# Altium integrated library LPEDT_project_library.IntLib: 34 symbols (part 1 of 2)
Pins are listed as number, name and electrical type; pins without a type are passive.

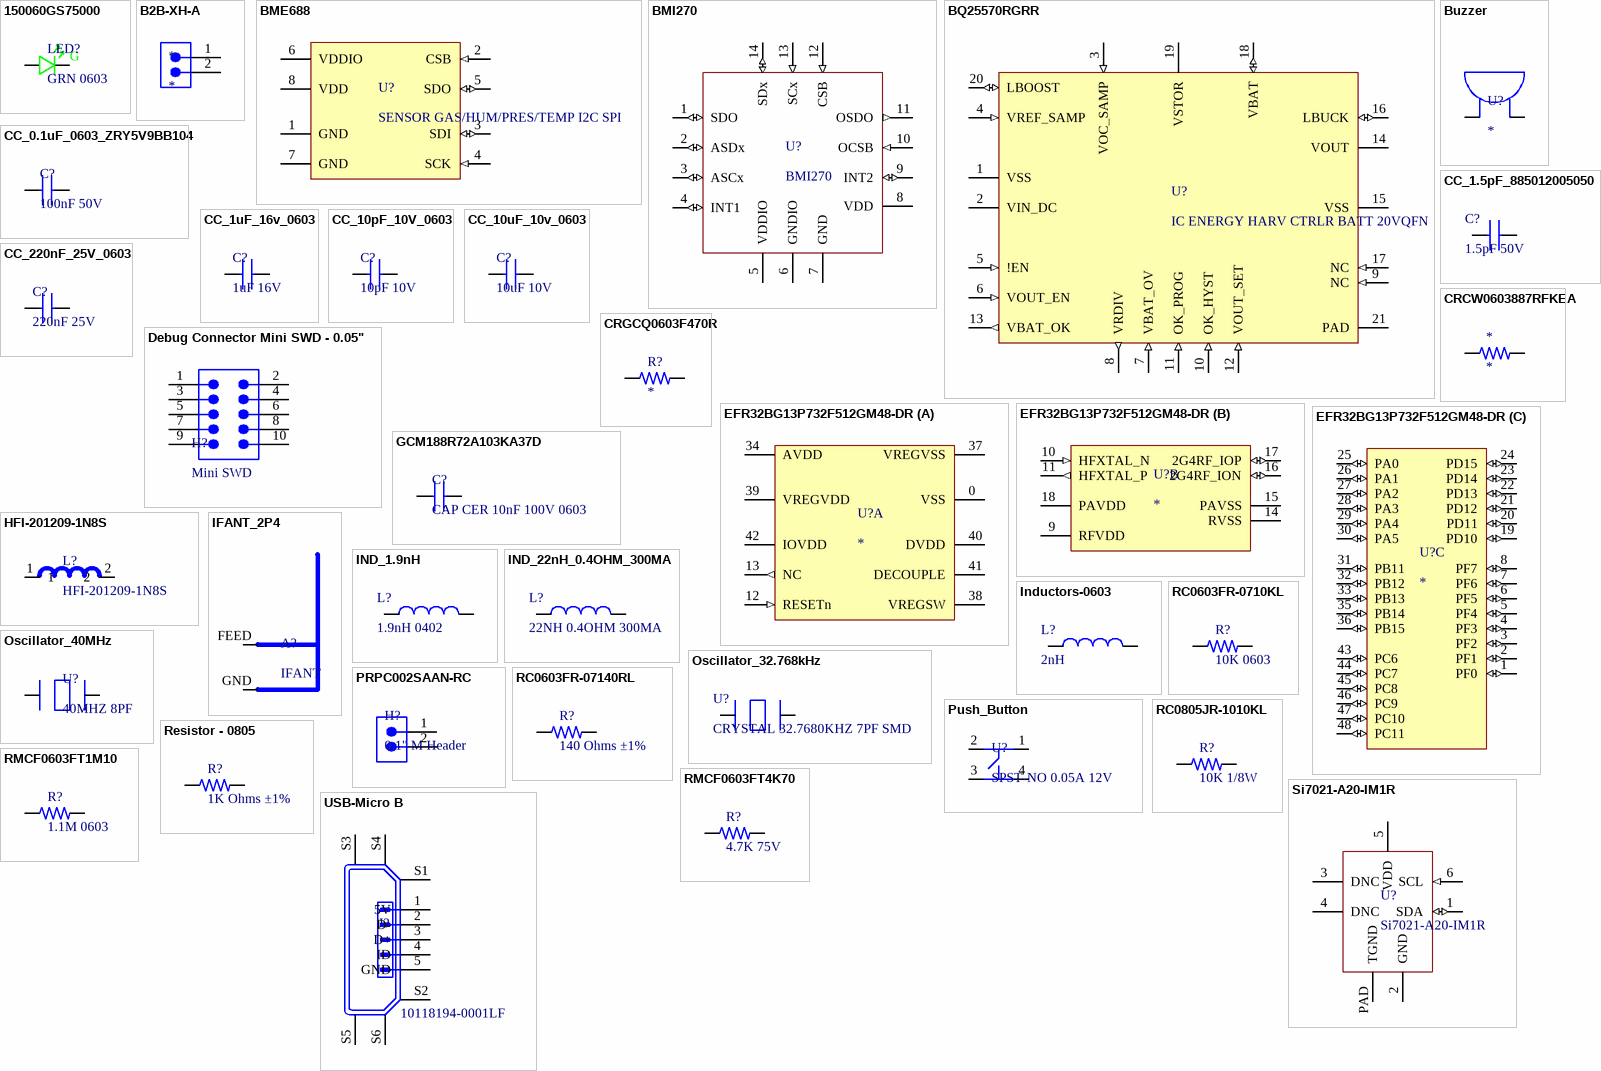
[diagram p0: symbols 150060GS75000 to USB-Micro B]

## 150060GS75000
designator LED?, comment GRN 0603
LED, 0603, GREEN, 430MCD, 520NM; Manufacturer: Wurth Electronics; Manufacturer Part Number: 150060GS75000; Dynamic Catalog: 0603 Rectangle with Flat Top Chip LEDs; 3D Model: SMCW_0603.igs / SMCW_0603.stp / SMCW_0603.wrl; Wavelength - Peak: 515nm; Voltage - Forward (Vf) (Typ): 3.2V; Current - Test: 20mA; Viewing Angle: 140°; Lens Type: Clear; Lens Style/Size: Rectangle with Flat Top, 1.1mm x 0.7mm; Other Names: 732-4971-2; Supplier 1: Digi-Key; Stock 1: 34964; Pricing 1: 1=0.14, 50=0.129, 100=0.11, 500=0.095 (USD); Standard Package: 4,000; Category: Optoelectronics; Family: LED Indication - Discrete; Series: WL-SMCW; Packaging: Tape & Reel (TR); Color: Green; Wavelength - Dominant: 520nm; Millicandela Rating: 430mcd; Package / Case: 0603 (1608 Metric); Size / Dimension: 1.60mm L x 0.80mm W; Height: 0.70mm; Mounting Type: Surface Mount; Online Catalog: 0603 Rectangle with Flat Top Chip LEDs; ComponentLink1URL: https://katalog.we-online.de/led/datasheet/150060GS75000.pdf?src-supplier=Digi-Key; ComponentLink1Description: https://katalog.we-online.de/led/datasheet/150060GS75000.pdf?src-supplier=Digi-Key; ComponentLink2URL: http://www.produktinfo.conrad.com/datenblaetter/750000-774999/759427-da-01-en-CHIPLED_0603_W_KL_GRUEN_150060GS75000.pdf?src-supplier=Conrad; ComponentLink2Description: http://www.produktinfo.conrad.com/datenblaetter/750000-774999/759427-da-01-en-CHIPLED_0603_W_KL_GRUEN_150060GS75000.pdf?src-supplier=Conrad; Supplier Part Number 1: 732-4971-1-ND
footprint LED_0603_GRN_WL-SMCW (SODFL, 2-Leads, Body 0.80x1.80mm, IPC Medium Density)
pins: A, C
text: G

## B2B-XH-A
designator *
Board Connector, 2 Contact(s), 1 Row(s), Male, Straight, Solder Terminal,; Manufacturer: JST; Manufacturer Part Number: B2B-XH-A; Supplier: Digikey; Supplier Part Number: 455-B2B-XH-A-ND; RoHS: Yes; Category: FFC / FPC; Stock: 691752; Pricing: 1=0.15, 10=0.122, 100=0.0898, 500=0.07432, 1000=0.06502, 5000=0.05573, 10000=0.05419 (USD); ComponentLink1URL: https://www.distrelec.biz/Web/Downloads/_t/ds/xh-series_eng_tds.pdf?mime=application%2Fpdf&src-supplier=Distrelec; ComponentLink1Description: https://www.distrelec.biz/Web/Downloads/_t/ds/xh-series_eng_tds.pdf?mime=application%2Fpdf&src-supplier=Distrelec
footprint JST_B2B-XH-A(LF)(SN)
pins: 1, 2

## BME688
designator U?, comment SENSOR GAS/HUM/PRES/TEMP I2C SPI
Gas, Pressure, Temperature and Humidity Sensor Digital Output 1.8V 8-Pin LGA Reel; Manufacturer: Bosch Tools; Manufacturer Part Number: BME688; Supplier: Digikey; Supplier Part Number: 828-BME688CT-ND; RoHS: No; Category: Temperature and Humidity Sensors; Stock: 11321; Pricing: 1=11.83, 10=9.466, 25=8.756, 100=7.5729, 500=7.0996, 1000=6.6263, 6000=6.29499 (USD)
footprint LGA_8_300X300X100 (LGA, 8-Leads, Body 3.00x3.00mmx1.00mm, Pitch 0.80mm)
pins: 1 GND (power) "Ground", 2 CSB (in) "Chip select", 3 SDI (io) "Serial data input", 4 SCK (in) "Serial clock input", 5 SDO (io) "Serial data output", 6 VDDIO (power) "Digital / Interface supply", 7 GND (power) "Ground", 8 VDD (power) "Analog supply"

## BMI270
designator U?
BMI270 Series 3.6 V 685 µA Smart Ultra-low Power Inertial Measurement Unit; Manufacturer: Bosch Tools; Supplier: Digikey; Supplier Part Number: 828-1091-1-ND; Manufacturer Part Number: BMI270; RoHS: No; Category: Linear ICs; Stock: 6145; Pricing: 1=5.88, 10=4.409, 25=3.9188, 50=3.7228, 100=3.6249, 500=3.03708, 1000=2.84113, 5000=2.64519 (USD)
footprint 14-QFN_3x2.5_BMI270 (QFN, 14-Leads, Body 3.00mmx2.50mm, Pitch 0.13, IPC Medium Density)
pins: 1 SDO (io) "SDO Serial data output in SPI 4W I2C Address bit-0 select in I2C mode", 2 ASDx (io) "Aux interface / OIS interface**", 3 ASCx (io) "Aux interface / OIS interface**", 4 INT1 (io) "Interrupt pin 1*", 5 VDDIO (power) "Digital I/O supply voltage (1.2 … 3.6V)", 6 GNDIO (power) "Ground for I/O", 7 GND (power) "Ground for digital & analog", 8 VDD (power) "Power supply analog & digital domain (1.71V – 3.6V)", 9 INT2 (io) "Interrupt pin 2 *", 10 OCSB (in) "OIS interface", 11 OSDO (out) "OIS interface", 12 CSB (in) "Chip select for SPI mode", 13 SCx (in) "SCK for SPI serial clock SCL for I²C serial clock", 14 SDx (io) "SDA serial data I/O in I2C SDI serial data input in SPI 4W SDA serial data I/O in SPI 3W"

## BQ25570RGRR
designator U?, comment IC ENERGY HARV CTRLR BATT 20VQFN
Power Supply Support Circuit, Adjustable, 1 Channel, PQCC20; Manufacturer: Texas Instruments; Manufacturer Part Number: BQ25570RGRR; Package Body Material: Plastic; Adjustable Threshold: Yes; Number of Channels: 1; Max Supply Voltage: 5.1V; Min Supply Voltage: 100mV; Supplier: Digikey; Supplier Part Number: 296-39934-1-ND; RoHS: Yes; Category: Battery Management; Stock: 9539; Pricing: 1=7.74, 10=5.775, 25=5.284, 100=4.7438, 250=4.48608, 500=4.3307, 1000=4.20281, 3000=4.04479 (USD); Case/Package: HVQCCN; Pins: 20; Package Shape: Square; Terminal Finish: Nickel; Min Operating Temperature: -40°C; Max Operating Temperature: 85°C; JESD-609 Code: e4; Throw Configuration: POWER SUPPLY SUPPORT CIRCUIT; Moisture Sensitivity Level: 2; Channels: 1; Package Style: CHIP CARRIER, HEAT SINK/SLUG, VERY THIN PROFILEMeter; Peak Reflow Temperature (Cel): 260°C; Surface Mount: Yes; Terminal Form: No Lead; Terminal Position: QUAD; Length: 3.5mm; Width: 3.5mm; Height - Seated (Max): 1mm; Terminal Pitch: 0.5mm; Temperature Grade: INDUSTRIAL; Reach SVHC Compliant: Yes; RoHS Compliant: Yes; ComponentLink1URL: https://www.ti.com:443/lit/ds/symlink/bq25570.pdf?src-supplier=IHS+Markit; ComponentLink1Description: https://www.ti.com:443/lit/ds/symlink/bq25570.pdf?src-supplier=IHS+Markit; ComponentLink2URL: https://datasheet.ciiva.com/29590/bq25570-29590060.pdf?src-supplier=Digikey; ComponentLink2Description: https://datasheet.ciiva.com/29590/bq25570-29590060.pdf?src-supplier=Digikey
footprint 20-VQFN_3.3x3.3_BQ25570RGRR (VQFN, 20-Leads, Body 3.30mmx3.30mm, IPC Medium Density)
pins: 1 VSS (power) "Power ground for the boost charger.", 2 VIN_DC (power) "DC voltage input from energy harvesting source. Connect at least a 4.7 μF capacitor as close as possible between this pin and pin 1.", 3 VOC_SAMP (in) "Sampling pin for MPPT network. Connect to VSTOR to sample at 80% of input source open circuit voltage. Connect to GND for 50% or connect to the mid-point of external resistor divider between VIN_DC and GND.", 4 VREF_SAMP (in) "Connect a 0.01-μF low-leakage capacitor from this pin to GND to store the voltage to which VIN_DC will be regulated. This voltage is provided by the MPPT sample circuit.", 5 !EN (in) "Active low digital programming input for enabling/disabling the IC. Connect to GND to enable the IC.", 6 VOUT_EN (in) "Active high digital programming input for enabling/disabling the buck converter. Connect to VSTOR to enable the buck converter.", 7 VBAT_OV (in) "Connect to the mid-point of external resistor divider between VRDIV and GND for setting the VBAT overvoltage threshold.", 8 VRDIV (out) "Connect high side of resistor divider networks to this biasing voltage.", 9 NC (in) "Connect to ground using the IC's PowerPAD™.", 10 OK_HYST (in) "Connect to the mid-point of external resistor divider between VRDIV and GND for setting the VBAT_OK hystersis threshold. If not used, connect this pin to GND.", 11 OK_PROG (in) "Connect to the mid-point of external resistor divider between VRDIV and GND for setting the VBAT_OK threshold. If not used, connect this pin to GND.", 12 VOUT_SET (in) "Connect to the mid-point of external resistor divider between VRDIV and GND for setting the VOUT regulation set point.", 13 VBAT_OK (out) "Digital output for battery good indicator. Internally referenced to the VSTOR voltage. Leave floating if not used.", 14 VOUT (power) "Buck converter output. Connect at least 22 μF output capacitor between this pin and pin 15 (VSS).", 15 VSS (power) "Power ground for the buck converter and analog/signal ground for the resistor dividers and VREF_SAMP capacitor.", 16 LBUCK (io) "Inductor connection for the buck converter switching node. Connect at least a 4.7 μH inductor between this pin and pin 14 (VOUT).", 17 NC (in) "Connect to ground using the IC's PowerPAD.", 18 VBAT (io) "Connect a rechargeable storage element with at least 100uF of equivalent capacitance between this pin and either VSS pin.", 19 VSTOR (power) "Connection for the output of the boost charger. Connect at least a 4.7 μF capacitor in parallel with a 0.1 μF capacitor as close as possible to between this pin and pin 1 (VSS).", 20 LBOOST (io) "Inductor connection for the boost charger switching node. Connect a 22 μH inductor between this pin and pin 2 (VIN_DC).", 21 PAD "Pad"

## Buzzer
designator U?
BUZZER PIEZO 3V 12.2MM TH; Supplier: Digikey; Supplier Part Number: 445-2525-1-ND
footprint Buzzer
pins: 1 Pin 1, 2 Pin 2

## CC_0.1uF_0603_ZRY5V9BB104
designator C?, comment 100nF 50V
Ceramic Capacitor, Multilayer, Ceramic, 50V, 80% +Tol, 20% -Tol, Y5V, -82/+22% TC, 0.1uF, Surface Mount, 0603; Manufacturer: Yageo; Manufacturer Part Number: CC0603ZRY5V9BB104; Multilayer: Yes; Supplier: Digikey; Supplier Part Number: 311-1343-1-ND; RoHS: Yes; Category: Ceramic Capacitors; Stock: 7870307; Pricing: 1=0.1, 10=0.028, 50=0.0162, 100=0.0125, 500=0.00944, 1000=0.00742 (USD); Mounting Technology: Surface Mount; Pins: 2; Dielectric Material: Ceramic; Package Shape: Rectangular; Case/Package: 0603; Terminal Finish: Nickel; Min Operating Temperature: -30°C; Max Operating Temperature: 85°C; JESD-609 Code: e3; Value: 100nF; Capacitor Type: Ceramic; Tolerance  (fill in as +-): 20%; Package Style: SMTMeter; Packaging: Tape and Reel; Tolerance (fill in as +-): 80%; Rated DC Voltage (URdc): 50V; Temperature Characteristics Code: Y5V; Termination: Wraparound; Length: 1.6mm; Width: 0.8mm; Height: 0.8mm; Reach SVHC Compliant: Yes; RoHS Compliant: Yes; ComponentLink1URL: https://datasheet.ciiva.com:443/pdfs/VipMasterIC/IC/YAGO/YAGO-S-A0004841839/YAGO-S-A0004841839-1.pdf?src-supplier=IHS+Markit; ComponentLink1Description: https://datasheet.ciiva.com:443/pdfs/VipMasterIC/IC/YAGO/YAGO-S-A0004841839/YAGO-S-A0004841839-1.pdf?src-supplier=IHS+Markit; ComponentLink2URL: https://datasheet.ciiva.com/144/mlccorderingcode-144027.pdf?src-supplier=Digikey; ComponentLink2Description: https://datasheet.ciiva.com/144/mlccorderingcode-144027.pdf?src-supplier=Digikey; ComponentLink3URL: https://datasheet.ciiva.com/11786/0900766b8079c870-11786029.pdf?src-supplier=Rs; ComponentLink3Description: https://datasheet.ciiva.com/11786/0900766b8079c870-11786029.pdf?src-supplier=Rs; ComponentLink4URL: https://datasheet.ciiva.com/144/mlccorderingcode-144025.pdf?src-supplier=Digikey; ComponentLink4Description: https://datasheet.ciiva.com/144/mlccorderingcode-144025.pdf?src-supplier=Digikey; ComponentLink5URL: https://datasheet.ciiva.com/144/mlccorderingcode-144026.pdf?src-supplier=Digikey; ComponentLink5Description: https://datasheet.ciiva.com/144/mlccorderingcode-144026.pdf?src-supplier=Digikey; ComponentLink6URL: https://datasheet.ciiva.com/5427/upy-gphc-y5v-6-3v-to-50v-5-5427420.pdf?src-supplier=Mouser; ComponentLink6Description: https://datasheet.ciiva.com/5427/upy-gphc-y5v-6-3v-to-50v-5-5427420.pdf?src-supplier=Mouser; ComponentLink7URL: https://datasheet.ciiva.com/28450/1132289-28450702.pdf?src-supplier=Element14; ComponentLink7Description: https://datasheet.ciiva.com/28450/1132289-28450702.pdf?src-supplier=Element14; ComponentLink8URL: https://datasheet.ciiva.com/26829/getdatasheetpartid-403611-26829467.pdf?src-supplier=Verical; ComponentLink8Description: https://datasheet.ciiva.com/26829/getdatasheetpartid-403611-26829467.pdf?src-supplier=Verical
footprint CAP_0603_1MM (Chip Capacitor, 2-Leads, Body 1.60x0.80mm, IPC Medium Density)
pins: 1, 2

## CC_1.5pF_885012005050
designator C?, comment 1.5pF 50V
1.5 pF ±0.5pF 50V Ceramic Capacitor C0G, NP0 0402 (1005 Metric); Manufacturer: Wurth Electronics; Manufacturer Part Number: 885012005050; Supplier: Digikey; Supplier Part Number: 732-12249-1-ND; RoHS: Yes; Category: Ceramic Capacitors; Stock: 24790; Pricing: 1=0.1, 10=0.015, 100=0.014, 500=0.012 (USD); Pins: 2; Dielectric Material: Ceramic; Capacitor Type: Ceramic; Reach SVHC Compliant: Yes; RoHS Compliant: Yes; ComponentLink1URL: https://datasheet.ciiva.com:443/pdfs/VipMasterIC/IC/MIDC/MIDC-S-A0001525369/MIDC-S-A0001525129-1.pdf?src-supplier=IHS+Markit; ComponentLink1Description: https://datasheet.ciiva.com:443/pdfs/VipMasterIC/IC/MIDC/MIDC-S-A0001525369/MIDC-S-A0001525129-1.pdf?src-supplier=IHS+Markit; ComponentLink2URL: https://katalog.we-online.de/pbs/datasheet/885012005050.pdf?src-supplier=Digikey; ComponentLink2Description: https://katalog.we-online.de/pbs/datasheet/885012005050.pdf?src-supplier=Digikey
footprint CAPC1005X55N
pins: 1, 2

## CC_1uF_16v_0603
designator C?, comment 1uF 16V
Ceramic Capacitor, Multilayer, Ceramic, 16V, 10% +Tol, 10% -Tol, X5R, 15% TC, 1uF, Surface Mount, 0603; Manufacturer: Samsung; Manufacturer Part Number: CL10A105KO8NNND; Multilayer: Yes; Supplier: Digikey; Supplier Part Number: 1276-CL10A105KO8NNNDCT-ND; RoHS: Yes; Category: Ceramic Capacitors; Stock: 29219; Pricing: 1=0.1, 10=0.029, 50=0.0194, 100=0.0165, 500=0.01166, 1000=0.01017, 2500=0.0086, 5000=0.00764 (USD); Mounting Technology: Surface Mount; Pins: 2; Dielectric Material: Ceramic; Package Shape: Rectangular; Case/Package: 0603; Terminal Finish: Nickel; Min Operating Temperature: -55°C; Max Operating Temperature: 85°C; JESD-609 Code: e3; Value: 1uF; Capacitor Type: Ceramic; Tolerance  (fill in as +-): 10%; Package Style: SMTMeter; Packaging: Tape and Reel; Tolerance (fill in as +-): 10%; Rated DC Voltage (URdc): 16V; Temperature Characteristics Code: X5R; Termination: Wraparound; Length: 1.6mm; Width: 0.8mm; Height: 0.9mm; Reach SVHC Compliant: Yes; RoHS Compliant: Yes; ComponentLink1URL: https://datasheet.ciiva.com:443/pdfs/VipMasterIC/IC/SEMS/SEMS-S-A0008520814/SEMS-S-A0008520822-1.pdf?src-supplier=IHS+Markit; ComponentLink1Description: https://datasheet.ciiva.com:443/pdfs/VipMasterIC/IC/SEMS/SEMS-S-A0008520814/SEMS-S-A0008520822-1.pdf?src-supplier=IHS+Markit; ComponentLink2URL: https://datasheet.ciiva.com/15195/getdatasheetpartid-353183-15195707.pdf?src-supplier=Verical; ComponentLink2Description: https://datasheet.ciiva.com/15195/getdatasheetpartid-353183-15195707.pdf?src-supplier=Verical
footprint CAP_0603_1MM (Chip Capacitor, 2-Leads, Body 1.60x0.80mm, IPC Medium Density)
pins: 1, 2

## CC_10pF_10V_0603
designator C?, comment 10pF 10V
10 pF ±5% 10V Ceramic Capacitor C0G, NP0 0603 (1608 Metric); Supplier: Digikey; Supplier Part Number: 732-7746-1-ND
footprint CAP_0603_1MM (Chip Capacitor, 2-Leads, Body 1.60x0.80mm, IPC Medium Density)
pins: 1, 2

## CC_10uF_10v_0603
designator C?, comment 10uF 10V
Ceramic Capacitor, Multilayer, Ceramic, 10V, 20% +Tol, 20% -Tol, X5R, 15% TC, 10uF, Surface Mount, 0603; Manufacturer: Cal-Chip Electronics; Manufacturer Part Number: GMC10X5R106M10NT; Multilayer: Yes; Supplier: Digikey; Supplier Part Number: 4713-GMC10X5R106M10NTCT-ND; RoHS: Yes; Stock: 109451; Pricing: 1=0.1, 10=0.053, 50=0.0362, 100=0.0312, 500=0.02258, 1000=0.01991 (USD); Mounting Technology: Surface Mount; Pins: 2; Dielectric Material: Ceramic; Package Shape: Rectangular; Case/Package: 0603; Terminal Finish: Nickel; Min Operating Temperature: -55°C; Max Operating Temperature: 85°C; JESD-609 Code: e3; Value: 10uF; Capacitor Type: Ceramic; Tolerance  (fill in as +-): 20%; Package Style: SMTMeter; Packaging: Tape and Reel; Tolerance (fill in as +-): 20%; Rated DC Voltage (URdc): 10V; Temperature Characteristics Code: X5R; Termination: Wraparound; Length: 1.6mm; Width: 0.8mm; Height: 0.8mm; Reach SVHC Compliant: Yes; RoHS Compliant: Yes; ComponentLink1URL: https://datasheet.ciiva.com:443/pdfs/VipMasterIC/IC/CALC/CALC-S-A0005264378/CALC-S-A0005264378-1.pdf?src-supplier=IHS+Markit; ComponentLink1Description: https://datasheet.ciiva.com:443/pdfs/VipMasterIC/IC/CALC/CALC-S-A0005264378/CALC-S-A0005264378-1.pdf?src-supplier=IHS+Markit
footprint CAP_0603_1MM (Chip Capacitor, 2-Leads, Body 1.60x0.80mm, IPC Medium Density)
pins: 1, 2

## CC_220nF_25V_0603
designator C?, comment 220nF 25V
Ceramic Capacitor, Multilayer, Ceramic, 25V, 10% +Tol, 10% -Tol, X5R, 15% TC, 0.22uF, Surface Mount, 0603; Manufacturer: Walsin Technologies; Manufacturer Part Number: 0603X224K250CT; Multilayer: Yes; Supplier: Digikey; Supplier Part Number: 1292-1552-1-ND; RoHS: Yes; Category: Ceramic Capacitors; Stock: 22060; Pricing: 1=0.1, 10=0.037, 50=0.0212, 100=0.0164, 500=0.01234, 1000=0.00969 (USD); Mounting Technology: Surface Mount; Pins: 2; Dielectric Material: Ceramic; Package Shape: Rectangular; Case/Package: 0603; Terminal Finish: Nickel; Min Operating Temperature: -55°C; Max Operating Temperature: 85°C; JESD-609 Code: e3; Value: 220nF; Capacitor Type: Ceramic; Tolerance  (fill in as +-): 10%; Package Style: SMTMeter; Packaging: Tape and Reel; Tolerance (fill in as +-): 10%; Rated DC Voltage (URdc): 25V; Temperature Characteristics Code: X5R; Termination: Wraparound; Length: 1.6mm; Width: 0.8mm; Height: 0.8mm; Reach SVHC Compliant: Yes; RoHS Compliant: Yes; ComponentLink1URL: https://datasheet.ciiva.com:443/pdfs/VipMasterIC/IC/WATC/WATC-S-A0009550342/WATC-S-A0009550342-1.pdf?src-supplier=IHS+Markit; ComponentLink1Description: https://datasheet.ciiva.com:443/pdfs/VipMasterIC/IC/WATC/WATC-S-A0009550342/WATC-S-A0009550342-1.pdf?src-supplier=IHS+Markit; ComponentLink2URL: http://www.farnell.com/datasheets/1958513.pdf?src-supplier=Farnell; ComponentLink2Description: http://www.farnell.com/datasheets/1958513.pdf?src-supplier=Farnell; ComponentLink3URL: https://datasheet.octopart.com/0603X224K250CT-Walsin-Technologies-datasheet-85392065.pdf?src-supplier=Element14; ComponentLink3Description: https://datasheet.octopart.com/0603X224K250CT-Walsin-Technologies-datasheet-85392065.pdf?src-supplier=Element14; ComponentLink4URL: http://www.passivecomponent.com/wp-content/uploads/2018/10/MLCC.pdf?src-supplier=Digikey; ComponentLink4Description: http://www.passivecomponent.com/wp-content/uploads/2018/10/MLCC.pdf?src-supplier=Digikey; ComponentLink5URL: https://datasheet.octopart.com/0603X224K250CT-Walsin-Technologies-datasheet-157857041.pdf?src-supplier=Future+Electronics; ComponentLink5Description: https://datasheet.octopart.com/0603X224K250CT-Walsin-Technologies-datasheet-157857041.pdf?src-supplier=Future+Electronics; ComponentLink6URL: https://datasheet.octopart.com/0603X224K250CT-Walsin-Technologies-datasheet-136037192.pdf?src-supplier=TECHDesign; ComponentLink6Description: https://datasheet.octopart.com/0603X224K250CT-Walsin-Technologies-datasheet-136037192.pdf?src-supplier=TECHDesign
footprint CAP_0603_1MM (Chip Capacitor, 2-Leads, Body 1.60x0.80mm, IPC Medium Density)
pins: 1, 2

## CRCW0603887RFKEA
designator *
Fixed Resistor, Metal Glaze/thick Film, 0.1W, 887ohm, 75V, 1% +/-Tol, 100ppm/Cel, Surface Mount, 0603; Manufacturer: Vishay; Manufacturer Part Number: CRCW0603887RFKEA; Power: 100mW; Rated Temperature: 70°C; Value: 887R; Temperature Coefficient: 100ppm/°C; Package Height: 0.45mm; Package Length: 1.55mm; Package Width: 0.85mm; Reference Standard: AEC-Q200; Supplier: Digikey; Supplier Part Number: 541-887HCT-ND; RoHS: Yes; Category: Chip SMD Resistors; Stock: 35413; Pricing: 1=0.1, 10=0.026, 50=0.0166, 100=0.014, 500=0.00954, 1000=0.00824 (USD); Mounting Technology: Surface Mount; Pins: 2; Package Shape: Rectangular; Case/Package: 0603; Terminal Finish: Nickel; Min Operating Temperature: -55°C; Max Operating Temperature: 155°C; Tolerance: 1%; Resistor Type: FIXED RESISTOR; JESD-609 Code: e3; Construction: Chip; Package Style: SMTMeter; Packaging: Tape and Reel; Technology: METAL GLAZE/THICK FILM; Termination: Wraparound; Working Voltage: 75V; Reach SVHC Compliant: Yes; RoHS Compliant: Yes; ComponentLink1URL: https://datasheet.ciiva.com:443/pdfs/VipMasterIC/IC/VISH/VISH-S-A0007266705/VISH-S-A0007266705-1.pdf?src-supplier=IHS+Markit; ComponentLink1Description: https://datasheet.ciiva.com:443/pdfs/VipMasterIC/IC/VISH/VISH-S-A0007266705/VISH-S-A0007266705-1.pdf?src-supplier=IHS+Markit; ComponentLink2URL: https://datasheet.ciiva.com/7672/1697337-7672573.pdf?src-supplier=Element14; ComponentLink2Description: https://datasheet.ciiva.com/7672/1697337-7672573.pdf?src-supplier=Element14; ComponentLink3URL: https://datasheet.ciiva.com/7672/1697337-7672574.pdf?src-supplier=Element14; ComponentLink3Description: https://datasheet.ciiva.com/7672/1697337-7672574.pdf?src-supplier=Element14; ComponentLink4URL: https://datasheet.ciiva.com/7792/dcrcwe3-7792425.pdf?src-supplier=Element14; ComponentLink4Description: https://datasheet.ciiva.com/7792/dcrcwe3-7792425.pdf?src-supplier=Element14; ComponentLink5URL: https://datasheet.ciiva.com/22706/1697337-22706375.pdf?src-supplier=Element14; ComponentLink5Description: https://datasheet.ciiva.com/22706/1697337-22706375.pdf?src-supplier=Element14; ComponentLink6URL: https://datasheet.ciiva.com/22674/1847332-22674605.pdf?src-supplier=Element14; ComponentLink6Description: https://datasheet.ciiva.com/22674/1847332-22674605.pdf?src-supplier=Element14; ComponentLink7URL: https://datasheet.ciiva.com/2494/dcrcwe3-2494672.pdf?src-supplier=Digikey; ComponentLink7Description: https://datasheet.ciiva.com/2494/dcrcwe3-2494672.pdf?src-supplier=Digikey; ComponentLink8URL: https://datasheet.ciiva.com/2494/dcrcwe3-2494673.pdf?src-supplier=Digikey; ComponentLink8Description: https://datasheet.ciiva.com/2494/dcrcwe3-2494673.pdf?src-supplier=Digikey; ComponentLink9URL: https://datasheet.ciiva.com/2494/dcrcwe3-2494674.pdf?src-supplier=Digikey; ComponentLink9Description: https://datasheet.ciiva.com/2494/dcrcwe3-2494674.pdf?src-supplier=Digikey; ComponentLink10URL: https://datasheet.ciiva.com/3257/dcrcwe3-3257945.pdf?src-supplier=Avnet; ComponentLink10Description: https://datasheet.ciiva.com/3257/dcrcwe3-3257945.pdf?src-supplier=Avnet; ComponentLink11URL: https://datasheet.ciiva.com/16371/dcrcwe3-16371788.pdf?src-supplier=Future+Electronics; ComponentLink11Description: https://datasheet.ciiva.com/16371/dcrcwe3-16371788.pdf?src-supplier=Future+Electronics; ComponentLink12URL: https://datasheet.ciiva.com/16759/70201119-16759022.pdf?src-supplier=Allied+Electronics; ComponentLink12Description: https://datasheet.ciiva.com/16759/70201119-16759022.pdf?src-supplier=Allied+Electronics
footprint RES_0603_1608X06 (Chip Resistor, 2-Leads, Body 1.60x0.80mm, IPC Medium Density)
pins: 1, 2

## CRGCQ0603F470R
designator R?
Fixed Resistor, Metal Glaze/thick Film, 0.1W, 470ohm, 75V, 1% +/-Tol, 100ppm/Cel, Surface Mount, 0603; Manufacturer: TE Connectivity; Manufacturer Part Number: CRGCQ0603F470R; Supplier: Digikey; Supplier Part Number: A129684CT-ND; RoHS: Yes; Category: Chip SMD Resistors; Stock: 1175736; Pricing: 1=0.1, 10=0.023, 50=0.0144, 100=0.0121, 500=0.00822, 1000=0.00709 (USD); Pins: 2; Resistor Type: FIXED RESISTOR; Reach SVHC Compliant: Yes; RoHS Compliant: Yes; ComponentLink1URL: https://datasheet.ciiva.com:443/pdfs/VipMasterIC/IC/TYEL/TYEL-S-A0009522825/TYEL-S-A0009523907-1.pdf?src-supplier=IHS+Markit; ComponentLink1Description: https://datasheet.ciiva.com:443/pdfs/VipMasterIC/IC/TYEL/TYEL-S-A0009522825/TYEL-S-A0009523907-1.pdf?src-supplier=IHS+Markit; ComponentLink2URL: https://4donline.ihs.com/images/VipMasterIC/IC/TYEL/TYEL-S-A0004929575/TYEL-S-A0004929575-1.pdf?hkey=52A5661711E402568146F3353EA87419&src-supplier=Farnell; ComponentLink2Description: https://4donline.ihs.com/images/VipMasterIC/IC/TYEL/TYEL-S-A0004929575/TYEL-S-A0004929575-1.pdf?hkey=52A5661711E402568146F3353EA87419&src-supplier=Farnell; ComponentLink3URL: http://datasheet.octopart.com/CRGCQ0603F470R-TE-Connectivity-datasheet-114679081.pdf?src-supplier=Verical; ComponentLink3Description: http://datasheet.octopart.com/CRGCQ0603F470R-TE-Connectivity-datasheet-114679081.pdf?src-supplier=Verical; ComponentLink4URL: http://datasheet.octopart.com/CRGCQ0603F470R-TE-Connectivity-datasheet-114679081.pdf?src-supplier=Onlinecomponents.com; ComponentLink4Description: http://datasheet.octopart.com/CRGCQ0603F470R-TE-Connectivity-datasheet-114679081.pdf?src-supplier=Onlinecomponents.com; ComponentLink5URL: https://4donline.ihs.com/images/VipMasterIC/IC/TYEL/TYEL-S-A0004929575/TYEL-S-A0004929575-1.pdf?hkey=52A5661711E402568146F3353EA87419&src-supplier=Newark; ComponentLink5Description: https://4donline.ihs.com/images/VipMasterIC/IC/TYEL/TYEL-S-A0004929575/TYEL-S-A0004929575-1.pdf?hkey=52A5661711E402568146F3353EA87419&src-supplier=Newark; ComponentLink6URL: http://datasheet.octopart.com/CRGCQ0603F470R-TE-Connectivity-datasheet-114679081.pdf?src-supplier=Mouser; ComponentLink6Description: http://datasheet.octopart.com/CRGCQ0603F470R-TE-Connectivity-datasheet-114679081.pdf?src-supplier=Mouser; ComponentLink7URL: https://www.te.com/commerce/DocumentDelivery/DDEController?Action=srchrtrv&DocNm=1773204-3&DocType=DS&DocLang=English&src-supplier=Digikey; ComponentLink7Description: https://www.te.com/commerce/DocumentDelivery/DDEController?Action=srchrtrv&DocNm=1773204-3&DocType=DS&DocLang=English&src-supplier=Digikey; ComponentLink8URL: https://www.te.com/commerce/DocumentDelivery/DDEController?Action=srchrtrv&amp;DocNm=1773204-3&amp;DocType=DS&amp;DocLang=English&src-supplier=Digikey; ComponentLink8Description: https://www.te.com/commerce/DocumentDelivery/DDEController?Action=srchrtrv&amp;DocNm=1773204-3&amp;DocType=DS&amp;DocLang=English&src-supplier=Digikey; ComponentLink9URL: http://datasheet.octopart.com/CRGCQ0603F470R-TE-Connectivity-datasheet-114679081.pdf?src-supplier=Avnet; ComponentLink9Description: http://datasheet.octopart.com/CRGCQ0603F470R-TE-Connectivity-datasheet-114679081.pdf?src-supplier=Avnet; ComponentLink10URL: http://datasheet.octopart.com/CRGCQ0603F470R-TE-Connectivity-datasheet-114679081.pdf?src-supplier=Newark; ComponentLink10Description: http://datasheet.octopart.com/CRGCQ0603F470R-TE-Connectivity-datasheet-114679081.pdf?src-supplier=Newark; ComponentLink11URL: http://datasheet.octopart.com/CRGCQ0603F470R-TE-Connectivity-datasheet-114679081.pdf?src-supplier=Electro+Sonic; ComponentLink11Description: http://datasheet.octopart.com/CRGCQ0603F470R-TE-Connectivity-datasheet-114679081.pdf?src-supplier=Electro+Sonic; ComponentLink12URL: http://datasheet.octopart.com/CRGCQ0603F470R-TE-Connectivity-datasheet-114679081.pdf?src-supplier=Heilind+Electronics; ComponentLink12Description: http://datasheet.octopart.com/CRGCQ0603F470R-TE-Connectivity-datasheet-114679081.pdf?src-supplier=Heilind+Electronics; ComponentLink13URL: http://datasheet.octopart.com/CRGCQ0603F470R-TE-Connectivity-datasheet-114679081.pdf?src-supplier=TME; ComponentLink13Description: http://datasheet.octopart.com/CRGCQ0603F470R-TE-Connectivity-datasheet-114679081.pdf?src-supplier=TME; ComponentLink14URL: http://datasheet.octopart.com/CRGCQ0603F470R-TE-Connectivity-datasheet-114679081.pdf?src-supplier=Sager+Electronics; ComponentLink14Description: http://datasheet.octopart.com/CRGCQ0603F470R-TE-Connectivity-datasheet-114679081.pdf?src-supplier=Sager+Electronics; ComponentLink15URL: http://datasheet.octopart.com/CRGCQ0603F470R-TE-Connectivity-datasheet-114679081.pdf?src-supplier=Interstate+Connecting+Components; ComponentLink15Description: http://datasheet.octopart.com/CRGCQ0603F470R-TE-Connectivity-datasheet-114679081.pdf?src-supplier=Interstate+Connecting+Components; ComponentLink16URL: https://datasheet.octopart.com/CRGCQ0603F470R-TE-Connectivity-datasheet-114679081.pdf?src-supplier=Master+Electronics; ComponentLink16Description: https://datasheet.octopart.com/CRGCQ0603F470R-TE-Connectivity-datasheet-114679081.pdf?src-supplier=Master+Electronics
footprint RES_0603_1608X06 (Chip Resistor, 2-Leads, Body 1.60x0.80mm, IPC Medium Density)
pins: 1, 2

## Debug Connector Mini SWD - 0.05"
designator H?, comment Mini SWD
Mini SWD 0.05" Pitch Connector - 10 Pin SMT Box Header; Manufacturer: Adafruit Industries; Manufacturer Part Number: 4048; Supplier 1: Digi-Key; RoHS: No; Category: Connectors; Stock 1: 201; Pricing 1: 1=1.95000 (USD); ComponentLink1URL: https://media.digikey.com/pdf/Data%20Sheets/Adafruit%20PDFs/4048_Web.pdf?src-supplier=Digi-Key; ComponentLink1Description: https://media.digikey.com/pdf/Data%20Sheets/Adafruit%20PDFs/4048_Web.pdf?src-supplier=Digi-Key
footprint FTSH-105-01-XXX-DV-K
pins: 1, 2, 3, 4, 5, 6, 7, 8, 9, 10

## EFR32BG13P732F512GM48-DR
designator U?
IC RF TXRX+MCU BLE 48QFN; Manufacturer: Silicon Labs; Manufacturer Part Number: EFR32BG13P732F512GM48-DR; Supplier: Digikey; Supplier Part Number: 336-EFR32BG13P732F512GM48-DRCT-ND; RoHS: No; Category: RF Receivers, Transceivers; Stock: 8814; Pricing: 1=7.73, 10=7.088, 25=6.444, 100=5.7994, 250=5.31612, 500=4.83284, 1000=4.34956 (USD); RoHS Compliant: Yes; ComponentLink1URL: https://www.silabs.com/documents/login/data-sheets/efr32bg13-datasheet.pdf?src-supplier=Digikey; ComponentLink1Description: https://www.silabs.com/documents/login/data-sheets/efr32bg13-datasheet.pdf?src-supplier=Digikey
footprint QFN48P700X700X90_HS-49N (QFN, 48-Leads, Body 7.00x7.00mm, Pitch 0.50mm, Thermal Pad 4.70x4.70mm, IPC Medium Density)
part A pins: 0 VSS (power) "Power Ground", 12 RESETn (in) "Reset input, active low. This pin is internally pulled up to AVDD. To apply anexternal reset source to this pin, it is required to only drive this pin low during reset, and let the internal pull-up ensure that reset is released.", 13 NC (out) "No Connect.", 34 AVDD (power) "Analog power supply.", 37 VREGVSS (power) "Voltage regulator VSS", 38 VREGSW (power) "DCDC regulator switching node", 39 VREGVDD (power) "Voltage regulator VDD input", 40 DVDD (power) "Digital power supply.", 41 DECOUPLE (power) "Decouple output for on-chip voltage regulator. An external decoupling capacitor is required at this pin. This pin should not be used to power any external circuits.", 42 IOVDD (power) "Digital IO power supply."
part B pins: 9 RFVDD (power) "Radio power supply", 10 HFXTAL_N (in) "High Frequency Crystal input pin.", 11 HFXTAL_P (out) "High Frequency Crystal output pin.", 14 RVSS (power) "Radio Ground", 15 PAVSS (power) "Power Amplifier (PA) voltage regulator VSS", 16 2G4RF_ION (io) "2.4 GHz Differential RF input/output, negative path. This pin should be externally grounded.", 17 2G4RF_IOP (io) "2.4 GHz Differential RF input/output, positive path.", 18 PAVDD (power) "Power Amplifier (PA) voltage regulator VDD input"
part C pins: 1 PF0 (io) "GPIO (5V)", 2 PF1 (io) "GPIO (5V)", 3 PF2 (io) "GPIO (5V)", 4 PF3 (io) "GPIO (5V)", 5 PF4 (io) "GPIO (5V)", 6 PF5 (io) "GPIO (5V)", 7 PF6 (io) "GPIO (5V)", 8 PF7 (io) "GPIO (5V)", 19 PD10 (io) "GPIO (5V)", 20 PD11 (io) "GPIO (5V)", 21 PD12 (io) "GPIO (5V)", 22 PD13 (io) "GPIO", 23 PD14 (io) "GPIO", 24 PD15 (io) "GPIO", 25 PA0 (io) "GPIO", 26 PA1 (io) "GPIO", 27 PA2 (io) "GPIO", 28 PA3 (io) "GPIO", 29 PA4 (io) "GPIO", 30 PA5 (io) "GPIO", 31 PB11 (io) "GPIO", 32 PB12 (io) "GPIO", 33 PB13 (io) "GPIO", 35 PB14 (io) "GPIO", 36 PB15 (io) "GPIO", 43 PC6 (io) "GPIO (5V)", 44 PC7 (io) "GPIO (5V)", 45 PC8 (io) "GPIO (5V)", 46 PC9 (io) "GPIO (5V)", 47 PC10 (io) "GPIO (5V)", 48 PC11 (io) "GPIO (5V)"

## GCM188R72A103KA37D
designator C?, comment CAP CER 10nF 100V 0603
Ceramic Capacitor, Multilayer, Ceramic, 100V, 10% +Tol, 10% -Tol, X7R, 15% TC, 0.01uF, Surface Mount, 0603; Manufacturer: Murata; Manufacturer Part Number: GCM188R72A103KA37D; Multilayer: Yes; Reference Standard: AEC-Q200; Supplier: Digikey; Supplier Part Number: 490-4781-1-ND; RoHS: Yes; Category: Ceramic Capacitors; Stock: 6381052; Pricing: 1=0.1, 10=0.03, 50=0.0204, 100=0.0174, 500=0.0125, 1000=0.01097 (USD); Mounting Technology: Surface Mount; Pins: 2; Dielectric Material: Ceramic; Package Shape: Rectangular; Case/Package: 0603; Terminal Finish: Nickel; Min Operating Temperature: -55°C; Max Operating Temperature: 125°C; JESD-609 Code: e3; Value: 10nF; Capacitor Type: Ceramic; Tolerance  (fill in as +-): 10%; Package Style: SMTMeter; Packaging: Tape and Reel; Tolerance (fill in as +-): 10%; Rated DC Voltage (URdc): 100V; Temperature Characteristics Code: X7R; Termination: Wraparound; Length: 1.6mm; Width: 0.8mm; Height: 0.9mm; Reach SVHC Compliant: Yes; RoHS Compliant: Yes; ComponentLink1URL: https://psearch.en.murata.com:443/capacitor/product/GCM188R72A103KA37%23.pdf?src-supplier=IHS+Markit; ComponentLink1Description: https://psearch.en.murata.com:443/capacitor/product/GCM188R72A103KA37%23.pdf?src-supplier=IHS+Markit; ComponentLink2URL: https://datasheet.ciiva.com/132/product-132907.pdf?src-supplier=Digikey; ComponentLink2Description: https://datasheet.ciiva.com/132/product-132907.pdf?src-supplier=Digikey; ComponentLink3URL: https://datasheet.ciiva.com/132/product-132908.pdf?src-supplier=Digikey; ComponentLink3Description: https://datasheet.ciiva.com/132/product-132908.pdf?src-supplier=Digikey; ComponentLink4URL: https://datasheet.ciiva.com/132/product-132909.pdf?src-supplier=Digikey; ComponentLink4Description: https://datasheet.ciiva.com/132/product-132909.pdf?src-supplier=Digikey; ComponentLink5URL: https://datasheet.ciiva.com/11786/0900766b80ef92d0-11786108.pdf?src-supplier=Rs; ComponentLink5Description: https://datasheet.ciiva.com/11786/0900766b80ef92d0-11786108.pdf?src-supplier=Rs; ComponentLink6URL: https://datasheet.ciiva.com/16497/product-16497251.pdf?src-supplier=Future+Electronics; ComponentLink6Description: https://datasheet.ciiva.com/16497/product-16497251.pdf?src-supplier=Future+Electronics; ComponentLink7URL: https://datasheet.ciiva.com/18183/getdatasheetpartid-178890-18183651.pdf?src-supplier=Verical; ComponentLink7Description: https://datasheet.ciiva.com/18183/getdatasheetpartid-178890-18183651.pdf?src-supplier=Verical; ComponentLink8URL: https://datasheet.ciiva.com/11619/product-11619719.pdf?src-supplier=Avnet; ComponentLink8Description: https://datasheet.ciiva.com/11619/product-11619719.pdf?src-supplier=Avnet
footprint CAP_0603_1MM (Chip Capacitor, 2-Leads, Body 1.60x0.80mm, IPC Medium Density)
pins: 1, 2

## HFI-201209-1N8S
designator L?
Fixed Ind 1.8NH 300MA 100 Mohm; Manufacturer: Jaro; Supplier: Digikey; Supplier Part Number: 334-1051-1-ND; Manufacturer Part Number: HFI-201209-1N8S; RoHS: No; Category: Fixed Inductors; Stock: 960; Pricing: 1=0.1, 10=0.098, 25=0.0964, 250=0.09468, 500=0.0928 (USD); ComponentLink1URL: https://datasheet.ciiva.com/1055/jaro-ind-chip-sm-hfi-highfrequencymultilayer-1055593.pdf?src-supplier=Digikey; ComponentLink1Description: https://datasheet.ciiva.com/1055/jaro-ind-chip-sm-hfi-highfrequencymultilayer-1055593.pdf?src-supplier=Digikey; ComponentLink2URL: https://datasheet.ciiva.com/1055/jaro-ind-chip-sm-hfi-highfrequencymultilayer-1055594.pdf?src-supplier=Digikey; ComponentLink2Description: https://datasheet.ciiva.com/1055/jaro-ind-chip-sm-hfi-highfrequencymultilayer-1055594.pdf?src-supplier=Digikey
footprint IND_0805_1_4MM (Fixed Inductor, 2-Leads, Body 2.00x1.25mm, IPC Medium Density)
pins: 1, 2

## IFANT_2P4
designator A?, comment IFANT
footprint IFANT_2P4
pins: FEED 0, GND 1

## IND_1.9nH
designator L?, comment 1.9nH 0402
General Purpose Inductor, 0.0019uH, 10.527%, 1 Element, Ceramic-Core, SMD, 0402; Manufacturer: Wurth Electronics; Manufacturer Part Number: 744765019A; DC Resistance (DCR): 70mR; Inductor Application: RF INDUCTOR; Channels: 1; Quality Factor-Min (at L-nom): 16; Max Current Rating: 1.04A; Self Resonant Frequency: 6GHz; Shape/Size Description: RECTANGULAR PACKAGE; Shielding: Unshielded; Test Frequency: 250MHz; Case/Size Code: 0402; Package Height: 0.5mm; Package Length: 1mm; Package Width: 0.55mm; Supplier: Digikey; Supplier Part Number: 732-1704-1-ND; RoHS: Yes; Category: Fixed Inductors; Stock: 10348; Pricing: 1=0.43, 10=0.416, 50=0.387, 100=0.358, 500=0.33, 1000=0.301 (USD); Pins: 2; Terminal Finish: Nickel; Core Material: Ceramic; Min Operating Temperature: -40°C; Max Operating Temperature: 125°C; Tolerance: 10.527%; Inductor Type: GENERAL PURPOSE INDUCTOR; Inductance-Nom (L): 0.0019uH; Surface Mount: Yes; Terminal Placement: Dual Ended; Termination: Wraparound; Construction: Unshielded; Package Style: SMTMeter; JESD-609 Code: e4; Series: 744765019A; Reach SVHC Compliant: Yes; RoHS Compliant: Yes; ComponentLink1URL: https://datasheet.ciiva.com:443/pdfs/VipMasterIC/IC/MIDC/MIDC-S-A0007763706/MIDC-S-A0007768436-1.pdf?src-supplier=IHS+Markit; ComponentLink1Description: https://datasheet.ciiva.com:443/pdfs/VipMasterIC/IC/MIDC/MIDC-S-A0007763706/MIDC-S-A0007768436-1.pdf?src-supplier=IHS+Markit; ComponentLink2URL: https://datasheet.ciiva.com/11803/0900766b80f88b3a-11803480.pdf?src-supplier=Rs; ComponentLink2Description: https://datasheet.ciiva.com/11803/0900766b80f88b3a-11803480.pdf?src-supplier=Rs; ComponentLink3URL: https://datasheet.ciiva.com/4978/744765019a-69516-4978713.pdf?src-supplier=Mouser; ComponentLink3Description: https://datasheet.ciiva.com/4978/744765019a-69516-4978713.pdf?src-supplier=Mouser; ComponentLink4URL: https://datasheet.ciiva.com/1048/744765019a-1048956.pdf?src-supplier=Digikey; ComponentLink4Description: https://datasheet.ciiva.com/1048/744765019a-1048956.pdf?src-supplier=Digikey; ComponentLink5URL: https://datasheet.ciiva.com/1048/744765019a-1048957.pdf?src-supplier=Digikey; ComponentLink5Description: https://datasheet.ciiva.com/1048/744765019a-1048957.pdf?src-supplier=Digikey; ComponentLink6URL: https://datasheet.ciiva.com/1048/744765019a-1048958.pdf?src-supplier=Digikey; ComponentLink6Description: https://datasheet.ciiva.com/1048/744765019a-1048958.pdf?src-supplier=Digikey
footprint CAPC1005X55N
pins: 1, 2

## IND_22nH_0.4OHM_300MA
designator L?, comment 22NH 0.4OHM 300MA
22 nH Unshielded Multilayer Inductor 300 mA 400mOhm Max 0603 (1608 Metric); Manufacturer: Tai Tech; Manufacturer Part Number: HCI1608F-22NJ-M; Supplier: DigiKey; Supplier Part Number: 4816-HCI1608F-22NJ-MCT-ND; Stock: 3940; Pricing: 1=0.1, 10=0.036, 25=0.0324, 50=0.03, 100=0.0278, 250=0.02512, 500=0.0233, 1000=0.02159 (USD)
footprint IND_0603_1MM (Fixed Inductor, 2-Leads, Body 1.60x0.80mm, IPC Medium Density)
pins: 1, 2

## Inductors-0603
designator L?, comment 2nH
Value and supplier has to be determined; Core Material: Ferrite; Tolerance: 20%; Channels: 1; Case/Size Code: 1111; DC Resistance (DCR): 101mR; Inductance-Nom (L): 3.3uH; Inductor Application: POWER INDUCTOR; Inductor Type: GENERAL PURPOSE INDUCTOR; Max Current Rating: 1.5A; Self Resonant Frequency: 100MHz; Shape/Size Description: RECTANGULAR PACKAGE; Shielding: Shielded; Test Frequency: 100kHz; Package Height: 2.8mm; RoHS: Yes; Category: Fixed Inductors; Stock: 3837; Pricing: 1=1.64, 10=1.578, 50=1.45, 100=1.205, 250=1.088 (USD); Pins: 2; Terminal Finish: Copper; Min Operating Temperature: -40°C; Max Operating Temperature: 125°C; JESD-609 Code: e2; Package Style: SMTMeter; Surface Mount: Yes; Construction: Chip; Packaging: Tape and Reel; Terminal Placement: Dual Ended; Termination: Wraparound; Package Length: 2.8mm; Package Width: 2.8mm; Reach SVHC Compliant: Yes; RoHS Compliant: Yes; ComponentLink1URL: https://datasheet.ciiva.com:443/pdfs/VipMasterIC/IC/MIDC/MIDC-S-A0002801266/MIDC-S-A0002801266-1.pdf?src-supplier=IHS+Markit; ComponentLink1Description: https://datasheet.ciiva.com:443/pdfs/VipMasterIC/IC/MIDC/MIDC-S-A0002801266/MIDC-S-A0002801266-1.pdf?src-supplier=IHS+Markit; ComponentLink2URL: https://datasheet.ciiva.com/1060/744025003-1060566.pdf?src-supplier=Digikey; ComponentLink2Description: https://datasheet.ciiva.com/1060/744025003-1060566.pdf?src-supplier=Digikey; ComponentLink3URL: https://datasheet.ciiva.com/4954/744025003-88791-4954796.pdf?src-supplier=Mouser; ComponentLink3Description: https://datasheet.ciiva.com/4954/744025003-88791-4954796.pdf?src-supplier=Mouser; ComponentLink4URL: https://datasheet.ciiva.com/11803/0900766b80f886b5-11803594.pdf?src-supplier=Rs; ComponentLink4Description: https://datasheet.ciiva.com/11803/0900766b80f886b5-11803594.pdf?src-supplier=Rs; ComponentLink5URL: https://datasheet.ciiva.com/1060/744025003-1060567.pdf?src-supplier=Digikey; ComponentLink5Description: https://datasheet.ciiva.com/1060/744025003-1060567.pdf?src-supplier=Digikey; ComponentLink6URL: https://datasheet.ciiva.com/1060/744025003-1060568.pdf?src-supplier=Digikey; ComponentLink6Description: https://datasheet.ciiva.com/1060/744025003-1060568.pdf?src-supplier=Digikey; ComponentLink7URL: https://datasheet.ciiva.com/14123/744025003-eng-tds-14123829.pdf?src-supplier=Distrelec; ComponentLink7Description: https://datasheet.ciiva.com/14123/744025003-eng-tds-14123829.pdf?src-supplier=Distrelec
footprint IND_0603_1MM (Fixed Inductor, 2-Leads, Body 1.60x0.80mm, IPC Medium Density)
pins: 1, 2

## Oscillator_32.768kHz
designator U?, comment CRYSTAL 32.7680KHZ 7PF SMD
32.768 kHz ±20ppm Crystal 7pF 70 kOhms 2-SMD, No Lead; Manufacturer: Seiko; Manufacturer Part Number: SC32S-7PF20PPM; Aging: 3 PPM/FIRST YEAR; Crystal/Resonator Type: PARALLEL - FUNDAMENTAL; Drive Level: 0.1uW; Operating Frequency-Nom: 0.032768; ESR: 70kR; Supplier: Digikey; Supplier Part Number: 728-1074-1-ND; RoHS: Yes; Category: Crystals; Stock: 140980; Pricing: 1=0.38, 10=0.316, 50=0.284, 100=0.2525, 500=0.23988, 1000=0.202, 3000=0.18937, 6000=0.18306, 15000=0.17675 (USD); Mounting Technology: Surface Mount; Min Operating Temperature: -40°C; Max Operating Temperature: 85°C; Frequency Tolerance: 20ppm; Load Capacitance: 7pF; Reach SVHC Compliant: Yes; RoHS Compliant: Yes; ComponentLink1URL: https://datasheet.ciiva.com:443/pdfs/VipMasterIC/IC/SIIS/SIISS03527/SIISS03527-1.pdf?src-supplier=IHS+Markit; ComponentLink1Description: https://datasheet.ciiva.com:443/pdfs/VipMasterIC/IC/SIIS/SIISS03527/SIISS03527-1.pdf?src-supplier=IHS+Markit; ComponentLink2URL: http://www.mouser.com/ds/2/360/file_PRODUCT_MASTER_50812_GRAPHIC03-542305.pdf?src-supplier=Mouser; ComponentLink2Description: http://www.mouser.com/ds/2/360/file_PRODUCT_MASTER_50812_GRAPHIC03-542305.pdf?src-supplier=Mouser; ComponentLink3URL: http://www.sii.co.jp/en/quartz/files/2013/03/file_PRODUCT_MASTER_50812_GRAPHIC03.pdf?src-supplier=Digikey; ComponentLink3Description: http://www.sii.co.jp/en/quartz/files/2013/03/file_PRODUCT_MASTER_50812_GRAPHIC03.pdf?src-supplier=Digikey; ComponentLink4URL: https://www.sii.co.jp/en/quartz/files/2013/03/SC-32S_Leaflet_e20151217.pdf?src-supplier=Digikey; ComponentLink4Description: https://www.sii.co.jp/en/quartz/files/2013/03/SC-32S_Leaflet_e20151217.pdf?src-supplier=Digikey
footprint Oscillator_32.768kHz_SC32S-7PF20PPM (32.768 kHz ±20ppm Crystal 7pF 70 kOhms 2-SMD, No Lead)
pins: 1, 2

## Oscillator_40MHz
designator U?, comment 40MHZ 8PF
40 MHz ±50ppm Crystal 8pF 50 Ohms 2-SMD, No Lead; Manufacturer: NDK; Manufacturer Part Number: LNCD1-40M; Supplier: Digikey; Supplier Part Number: 644-LNCD1-40MCT-ND; RoHS: No; Category: LDO; Stock: 3869; Pricing: 1=0.58, 10=0.501, 50=0.4516, 100=0.4319, 500=0.38952 (USD)
footprint OSCILLATOR_40MHz_LNCD1-40M (40 MHz ±50ppm Crystal 8pF 50 Ohms 2-SMD, No Lead)
pins: 1, 2

## PRPC002SAAN-RC
designator H?, comment 0.1" M Header
CONN HEADER VERT 2POS 2.54MM; Manufacturer: Sullins; Manufacturer Part Number: PRPC002SAAN-RC; Connector Type: Header, Unshrouded, Breakaway; Number of Positions: 2; Number of Positions Loaded: All; Pitch: 0.100" (2.54mm); Online Catalog: 0.100" (2.54mm) Pitch Connector Headers; Other Names: S9510E-02  S9510E-02-ND; Supplier 1: Digi-Key; Stock 1: 42739; Pricing 1: 1=0.08, 10=0.073, 25=0.054, 50=0.0464, 100=0.0449, 250=0.0387, 500=0.0372 (USD); Standard Package: 1; Category: Connectors, Interconnects; Family: Rectangular Connectors - Headers, Male Pins; Series: -; Packaging: Bulk; Contact Type: Male Pin; Number of Rows: 1; Row Spacing: -; Contact Mating Length: 0.230" (5.84mm); Mounting Type: Through Hole; Termination: Solder; Fastening Type: -; Features: -; Contact Finish: Gold; Contact Finish Thickness: Flash; Color: Black; ComponentLink1URL: https://media.digikey.com/PDF/Data%20Sheets/Sullins%20PDFs/xRxCzzzSxxN-RC_ST_11635-B.pdf?src-supplier=Digi-Key; ComponentLink1Description: https://media.digikey.com/PDF/Data%20Sheets/Sullins%20PDFs/xRxCzzzSxxN-RC_ST_11635-B.pdf?src-supplier=Digi-Key; Supplier Part Number 1: S1011EC-02-ND
footprint 2-PIN_MALE_HEADER_01-IN (Terminal Assembly, 1x2 Pins, Vertical, 2.54mm Pitch, Male)
pins: 1, 2

## Push_Button
designator U?, comment SPST-NO 0.05A 12V
Keypad Switch, 1 Switches, SPST, Momentary-tactile, 0.05A, 12VDC, 1.47N, Solder Terminal, Surface Mount-straight; Manufacturer: ITT C&K; Manufacturer Part Number: PTS647SN50SMTR2LFS; Supplier: Digikey; Supplier Part Number: PTS647SN50SMTR2LFSCT-ND; RoHS: No; Stock: 525945; Pricing: 1=0.18, 10=0.175, 25=0.166, 100=0.1503, 250=0.137, 500=0.12734 (USD); RoHS Compliant: Yes; ComponentLink1URL: https://www.ckswitches.com/media/2567/pts647.pdf?src-supplier=Digikey; ComponentLink1Description: https://www.ckswitches.com/media/2567/pts647.pdf?src-supplier=Digikey; ComponentLink2URL: https://datasheet.octopart.com/PTS647SN50SMTR2LFS-C%26K-Components-datasheet-117317067.pdf?src-supplier=Future+Electronics; ComponentLink2Description: https://datasheet.octopart.com/PTS647SN50SMTR2LFS-C%26K-Components-datasheet-117317067.pdf?src-supplier=Future+Electronics; ComponentLink3URL: https://datasheet.octopart.com/PTS647SN50SMTR2LFS-C%26K-Components-datasheet-156105943.pdf?src-supplier=TME; ComponentLink3Description: https://datasheet.octopart.com/PTS647SN50SMTR2LFS-C%26K-Components-datasheet-156105943.pdf?src-supplier=TME
footprint SPDT Switch (DFN, 4-Leads, Body 4.50x6.50mm, Pitch 3.20mm, IPC Medium Density)
pins: 1, 2, 3, 4

## RC0603FR-0710KL
designator R?, comment 10K 0603
Fixed Resistor, Metal Glaze/thick Film, 0.1W, 10000ohm, 75V, 1% +/-Tol, 100ppm/Cel, Surface Mount, 0603; Manufacturer: Yageo; Manufacturer Part Number: RC0603FR-0710KL; Additional Feature: LASER TRIMMABLE; Power: 100mW; Rated Temperature: 70°C; Value: 10kR; Temperature Coefficient: 100ppm/°C; Package Height: 0.45mm; Package Length: 1.6mm; Package Width: 0.8mm; Supplier: Digikey; Supplier Part Number: 311-10.0KHRCT-ND; RoHS: Yes; Category: Chip SMD Resistors; Stock: 6848888; Pricing: 1=0.1, 10=0.019, 50=0.0112, 100=0.0093, 500=0.00622, 1000=0.00532, 5000=0.00382, 10000=0.00335, 25000=0.00287, 35000=0.00278, 50000=0.00257, 125000=0.00232 (USD); Mounting Technology: Surface Mount; Pins: 2; Package Shape: Rectangular; Case/Package: 0603; Terminal Finish: Nickel; Min Operating Temperature: -55°C; Max Operating Temperature: 155°C; Tolerance: 1%; JESD-609 Code: e3; Resistor Type: FIXED RESISTOR; Construction: Chip; Package Style: SMTMeter; Packaging: Tape and Reel; Technology: METAL GLAZE/THICK FILM; Termination: Wraparound; Working Voltage: 75V; Reach SVHC Compliant: Yes; RoHS Compliant: Yes; ComponentLink1URL: https://datasheet.ciiva.com:443/pdfs/VipMasterIC/IC/YAGO/YAGO-S-A0008145938/YAGO-S-A0008145938-1.pdf?src-supplier=IHS+Markit; ComponentLink1Description: https://datasheet.ciiva.com:443/pdfs/VipMasterIC/IC/YAGO/YAGO-S-A0008145938/YAGO-S-A0008145938-1.pdf?src-supplier=IHS+Markit; ComponentLink2URL: http://www.farnell.com/datasheets/2167052.pdf?src-supplier=Farnell; ComponentLink2Description: http://www.farnell.com/datasheets/2167052.pdf?src-supplier=Farnell; ComponentLink3URL: http://www.farnell.com/datasheets/1868787.pdf?src-supplier=Farnell; ComponentLink3Description: http://www.farnell.com/datasheets/1868787.pdf?src-supplier=Farnell; ComponentLink4URL: http://www.farnell.com/datasheets/443971.pdf?src-supplier=Farnell; ComponentLink4Description: http://www.farnell.com/datasheets/443971.pdf?src-supplier=Farnell; ComponentLink5URL: http://www.yageo.com/documents/recent/PYu-RC_Group_51_RoHS_L_10.pdf?src-supplier=Digikey; ComponentLink5Description: http://www.yageo.com/documents/recent/PYu-RC_Group_51_RoHS_L_10.pdf?src-supplier=Digikey; ComponentLink6URL: http://www.yageo.com/documents/recent/PYu-RC_Group_51_RoHS_L_9.pdf?src-supplier=Component+Sense; ComponentLink6Description: http://www.yageo.com/documents/recent/PYu-RC_Group_51_RoHS_L_9.pdf?src-supplier=Component+Sense
footprint RES_0603_1608X06 (Chip Resistor, 2-Leads, Body 1.60x0.80mm, IPC Medium Density)
pins: 1, 2